# Altium schematic symbol library ESP32WithoutAntenna.SchLib: 1 symbol
Pins are listed as number, name and electrical type; pins without a type are passive.

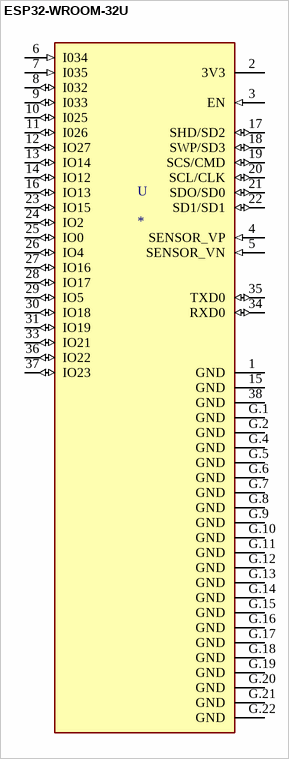
[diagram p0: symbol ESP32-WROOM-32U]

## ESP32-WROOM-32U
designator U
Bluetooth, WiFi 802.11b/g/n, Bluetooth v4.2 +EDR, Class 1, 2 and 3 Transceiver Module 2.4GHz ~ 2.5GHz Antenna Not Included, U.FL Surface Mount; MF: Espressif Systems; MP: ESP32-WROOM-32U; Value: *; SnapEDA_Link: https://www.snapeda.com/parts/ESP32-WROOM-32U/Espressif%20Systems/view-part/2472476/?ref=snap; Availability: Unavailable; Price: None; DigiKey-Purchase-URL: https://snapeda.com/shop?store=DigiKey&id=2472476; Package: Module Espressif Systems
footprint XCVR_ESP32-WROOM-32U
pins: 1 GND (power), 2 3V3 (power), 3 EN (in), 4 SENSOR_VP (in), 5 SENSOR_VN (in), 6 I034 (in), 7 I035 (in), 8 I032 (io), 9 I033 (io), 10 I025 (io), 11 I026 (io), 12 IO27 (io), 13 IO14 (io), 14 IO12 (io), 15 GND (power), 16 IO13 (io), 17 SHD/SD2 (io), 18 SWP/SD3 (io), 19 SCS/CMD (io), 20 SCL/CLK (io), 21 SDO/SD0 (io), 22 SD1/SD1 (io), 23 IO15 (io), 24 IO2 (io), 25 IO0 (io), 26 IO4 (io), 27 IO16 (io), 28 IO17 (io), 29 IO5 (io), 30 IO18 (io), 31 IO19 (io), 33 IO21 (io), 34 RXD0 (io), 35 TXD0 (io), 36 IO22 (io), 37 IO23 (io), 38 GND (power), G.1 GND (power), G.2 GND (power), G.4 GND (power), G.5 GND (power), G.6 GND (power), G.7 GND (power), G.8 GND (power), G.9 GND (power), G.10 GND (power), G.11 GND (power), G.12 GND (power), G.13 GND (power), G.14 GND (power), G.15 GND (power), G.16 GND (power), G.17 GND (power), G.18 GND (power), G.19 GND (power), G.20 GND (power), G.21 GND (power), G.22 GND (power)